# Altium footprint library IC.PCBLIB: 73 footprints (part 5 of 5)
Each footprint in its own frame and in the unit in brackets; x right, y up, seen from the top. Pads: shape width x height; smd on the part's side, far side on the other; paste and mask are expansions set on the pad; w line width, h text height; cw(c..) or ccw(c..) is an arc to the next point about the centre after c.
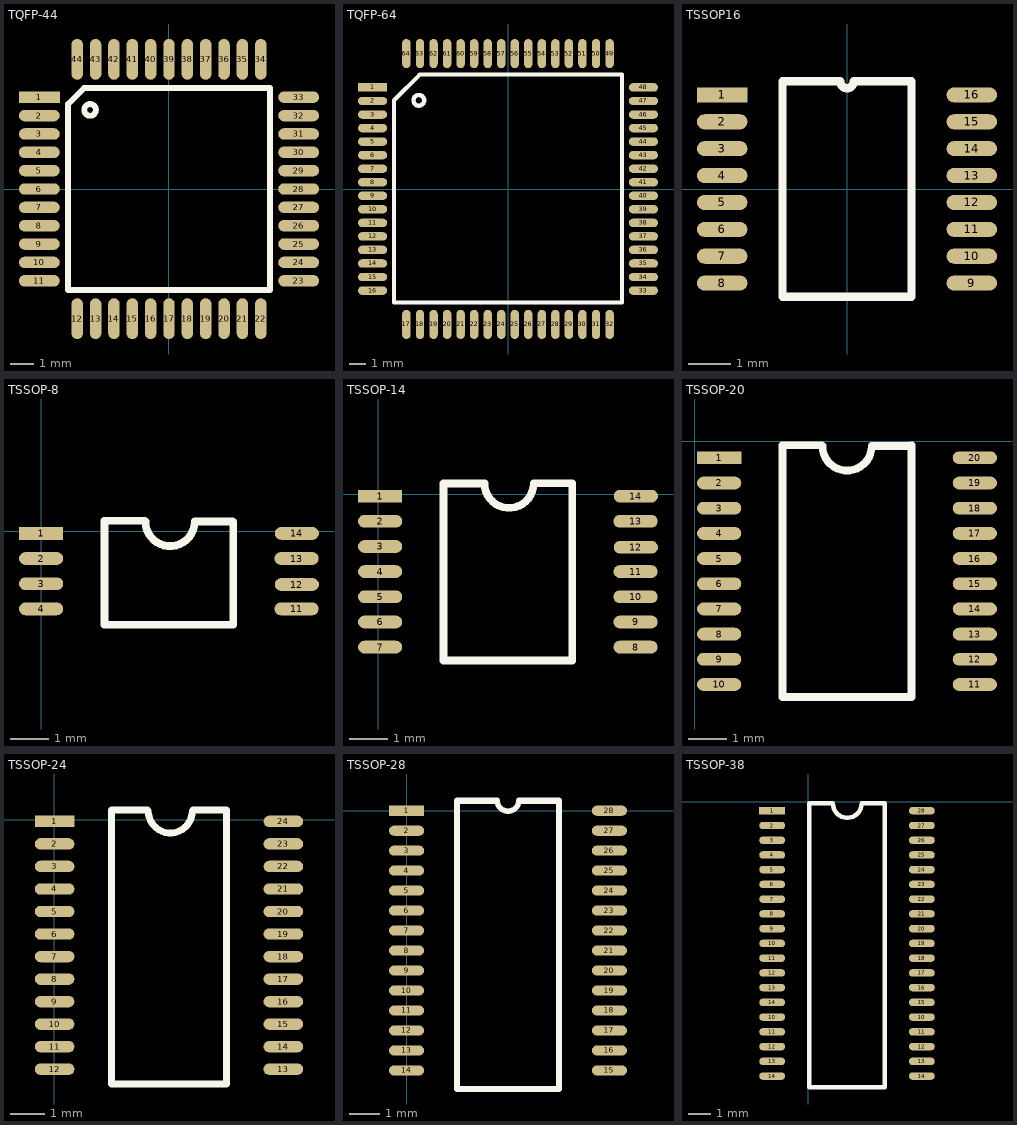
[diagram p4: the footprints below, top view; thin cyan lines are the x and y axes]

## TQFP-44 [mm]
pads (44):
  rect 1.778x0.5 smd: 1(-5.65,4)
  oval 1.778x0.5 smd: 2(-5.65,3.2) 3(-5.65,2.4) 4(-5.65,1.6) 5(-5.65,0.8) 6(-5.65,0) 7(-5.65,-0.8) 8(-5.65,-1.6) 9(-5.65,-2.4) 10(-5.65,-3.2) 11(-5.65,-4) 23(5.65,-4) 24(5.65,-3.2) 25(5.65,-2.4) 26(5.65,-1.6) 27(5.65,-0.8) 28(5.65,0) 29(5.65,0.8) 30(5.65,1.6) 31(5.65,2.4) 32(5.65,3.2) 33(5.65,4)
  oval 0.5x1.778 smd: 12(-4,-5.65) 13(-3.2,-5.65) 14(-2.4,-5.65) 15(-1.6,-5.65) 16(-0.8,-5.65) 17(0,-5.65) 18(0.8,-5.65) 19(1.6,-5.65) 20(2.4,-5.65) 21(3.2,-5.65) 22(4,-5.65) 34(4,5.65) 35(3.2,5.65) 36(2.4,5.65) 37(1.6,5.65) 38(0.8,5.65) 39(0,5.65) 40(-0.8,5.65) 41(-1.6,5.65) 42(-2.4,5.65) 43(-3.2,5.65) 44(-4,5.65)
TopOverlay:
  circle w0.254: c-3.441,3.446 r0.255
  lines w0.127: -4.4,3.7 -4.4,3.7
  lines w0.25: -4.4,-4.4 4.4,-4.4 4.4,4.4
  lines w0.254: -4.4,-4.4 -4.4,3.7 -3.7,4.4 4.4,4.4

## TQFP-64 [mm]
pads (64):
  rect 1.724x0.5 smd: 1(-8,6)
  oval 1.724x0.5 smd: 2(-8,5.2) 3(-8,4.4) 4(-8,3.6) 5(-8,2.8) 6(-8,2) 7(-8,1.2) 8(-8,0.4) 9(-8,-0.4) 10(-8,-1.2) 11(-8,-2) 12(-8,-2.8) 13(-8,-3.6) 14(-8,-4.4) 15(-8,-5.2) 16(-8,-6) 33(8,-6) 34(8,-5.2) 35(8,-4.4) 36(8,-3.6) 37(8,-2.8) 38(8,-2) 39(8,-1.2) 40(8,-0.4) 41(8,0.4) 42(8,1.2) 43(8,2) 44(8,2.8) 45(8,3.6) 46(8,4.4) 47(8,5.2) 48(8,6)
  oval 0.5x1.724 smd: 17(-6,-8) 18(-5.2,-8) 19(-4.4,-8) 20(-3.6,-8) 21(-2.8,-8) 22(-2,-8) 23(-1.2,-8) 24(-0.4,-8) 25(0.4,-8) 26(1.2,-8) 27(2,-8) 28(2.8,-8) 29(3.6,-8) 30(4.4,-8) 31(5.2,-8) 32(6,-8) 49(6,8) 50(5.2,8) 51(4.4,8) 52(3.6,8) 53(2.8,8) 54(2,8) 55(1.2,8) 56(0.4,8) 57(-0.4,8) 58(-1.2,8) 59(-2,8) 60(-2.8,8) 61(-3.6,8) 62(-4.4,8) 63(-5.2,8) 64(-6,8)
TopOverlay:
  circle w0.254: c-5.268,5.238 r0.316
  lines w0.254: -6.73,-6.7 6.732,-6.7 6.732,6.762 -5.206,6.762 -6.73,5.238 -6.73,-6.7

## TSSOP16 [mm]
pads (16):
  rect 1.2x0.36 smd: 1(-2.97,2.24)
  oval 1.2x0.36 smd: 2(-2.97,1.6) 3(-2.97,0.96) 4(-2.97,0.32) 5(-2.97,-0.32) 6(-2.97,-0.96) 7(-2.97,-1.6) 8(-2.97,-2.24) 9(2.97,-2.24) 10(2.97,-1.6) 11(2.97,-0.96) 12(2.97,-0.32) 13(2.97,0.32) 14(2.97,0.96) 15(2.97,1.6) 16(2.97,2.24)
TopOverlay:
  lines w0.2: -1.535,-2.56 1.535,-2.56 1.535,2.56 0.16,2.56 cw(c0,2.56) -0.16,2.56 -1.535,2.56 -1.535,-2.56

## TSSOP-8 [mil]
pads (8):
  rect 45x12.99 smd: 1(-0.16,-2)
  oval 45x12.99 smd: 2(-0.16,-27.59) 3(-0.16,-53.18) 4(-0.16,-78.77) 11(259.69,-78.77) 12(260,-54) 13(259.69,-27.59) 14(260,-2)
TopOverlay:
  lines w7.87: 105.2,10.79 64.21,10.79 64.21,-94.88 195.31,-94.88 195.31,9.84 ; 106,10 ccw(c131,10) 156,10 194.52,10

## TSSOP-14 [mil]
pads (14):
  rect 45x12.99 smd: 1(1.84,-2)
  oval 45x12.99 smd: 2(1.84,-27.59) 3(1.84,-53.18) 4(1.84,-78.77) 5(1.84,-104.36) 6(1.84,-129.95) 7(1.84,-155.54) 8(261.69,-155.54) 9(261.69,-129.95) 10(261.69,-104.36) 11(261.69,-78.77) 12(262,-54) 13(261.69,-27.59) 14(262,-2)
TopOverlay:
  lines w7.87: 107.64,10.79 66.21,10.79 66.21,-169.29 197.31,-169.29 197.31,10.79 ; 108,11 ccw(c133,11) 158,11 197.11,11

## TSSOP-20 [mm]
pads (20):
  rect 1.143x0.33 smd: 1(0.635,-0.432)
  oval 1.143x0.33 smd: 2(0.635,-1.082) 3(0.635,-1.732) 4(0.635,-2.382) 5(0.635,-3.032) 6(0.635,-3.682) 7(0.635,-4.332) 8(0.635,-4.982) 9(0.635,-5.632) 10(0.635,-6.282) 11(7.235,-6.282) 12(7.235,-5.632) 13(7.235,-4.982) 14(7.235,-4.332) 15(7.235,-3.682) 16(7.235,-3.032) 17(7.235,-2.382) 18(7.235,-1.732) 19(7.235,-1.082) 20(7.235,-0.432)
TopOverlay:
  lines w0.2: 3.282,-0.107 2.27,-0.107 2.27,-6.607 5.6,-6.607 5.6,-0.107 ; 3.302,-0.127 ccw(c3.937,-0.127) 4.572,-0.127 5.58,-0.127

## TSSOP-24 [mil]
pads (24):
  rect 45x12.99 smd: 1(0.63,-1.79)
  oval 45x12.99 smd: 2(0.63,-27.39) 3(0.63,-52.98) 4(0.63,-78.57) 5(0.63,-104.16) 6(0.63,-129.75) 7(0.63,-155.34) 8(0.63,-180.93) 9(0.63,-206.52) 10(0.63,-232.11) 11(0.63,-257.7) 12(0.63,-283.29) 13(260.47,-283.29) 14(260.47,-257.7) 15(260.47,-232.11) 16(260.47,-206.52) 17(260.47,-180.93) 18(260.47,-155.34) 19(260.47,-129.75) 20(260.47,-104.16) 21(260.47,-78.57) 22(260.47,-52.98) 23(260.47,-27.39) 24(260.47,-1.79)
TopOverlay:
  lines w7.87: 106,11 65,11 65,-300 196.1,-300 196.1,11 158,11 ; 107,10 ccw(c132,10) 157,10

## TSSOP-28 [mm]
pads (28):
  rect 1.143x0.33 smd: 1(0,0)
  oval 1.143x0.33 smd: 2(0,-0.65) 3(0,-1.3) 4(0,-1.95) 5(0,-2.6) 6(0,-3.25) 7(0,-3.9) 8(0,-4.55) 9(0,-5.2) 10(0,-5.85) 11(0,-6.5) 12(0,-7.15) 13(0,-7.8) 14(0,-8.45) 15(6.6,-8.45) 16(6.6,-7.8) 17(6.6,-7.15) 18(6.6,-6.5) 19(6.6,-5.85) 20(6.6,-5.2) 21(6.6,-4.55) 22(6.6,-3.9) 23(6.6,-3.25) 24(6.6,-2.6) 25(6.6,-1.95) 26(6.6,-1.3) 27(6.6,-0.65) 28(6.6,0)
TopOverlay:
  lines w0.178: 2.941,0.347 ccw(c3.3,0.347) 3.659,0.347
  lines w0.2: 2.941,0.325 1.635,0.325 1.635,-9.054 4.965,-9.054 4.965,0.325 3.659,0.325

## TSSOP-38 [mil]
pads (38):
  rect 45x12.99 smd: 1(-62.37,-15.79)
  oval 45x12.99 smd: 2(-62.37,-41.39) 3(-62.37,-66.98) 4(-62.37,-92.57) 5(-62.37,-118.16) 6(-62.37,-143.75) 7(-62.37,-169.34) 8(-62.37,-194.93) 9(-62.37,-220.52) 10(-62.37,-374.06) 10(-62.37,-246.11) 10(197.47,-374.06) 11(-62.37,-399.65) 11(-62.37,-271.7) 11(197.47,-399.65) 12(-62.37,-425.24) 12(-62.37,-297.29) 12(197.47,-425.24) 13(-62.37,-450.83) 13(-62.37,-322.88) 13(197.47,-450.83) 14(-62.37,-476.43) 14(-62.37,-348.47) 14(197.47,-476.43) 15(197.47,-348.47) 16(197.47,-322.88) 17(197.47,-297.29) 18(197.47,-271.7) 19(197.47,-246.11) 20(197.47,-220.52) 21(197.47,-194.93) 22(197.47,-169.34) 23(197.47,-143.75) 24(197.47,-118.16) 25(197.47,-92.57) 26(197.47,-66.98) 27(197.47,-41.39) 28(197.47,-15.79)
TopOverlay:
  lines w7.87: 2,-496.06 133.1,-496.06 133.1,-3 93,-3 cw(c68,-3) 43,-3 2,-3 2,-496.06